# Altium footprint library HTOL Project.PcbLib: 5 footprints
Each footprint in its own frame and in the unit in brackets; x right, y up, seen from the top. Pads: shape width x height; smd on the part's side, far side on the other; paste and mask are expansions set on the pad; w line width, h text height; cw(c..) or ccw(c..) is an arc to the next point about the centre after c.
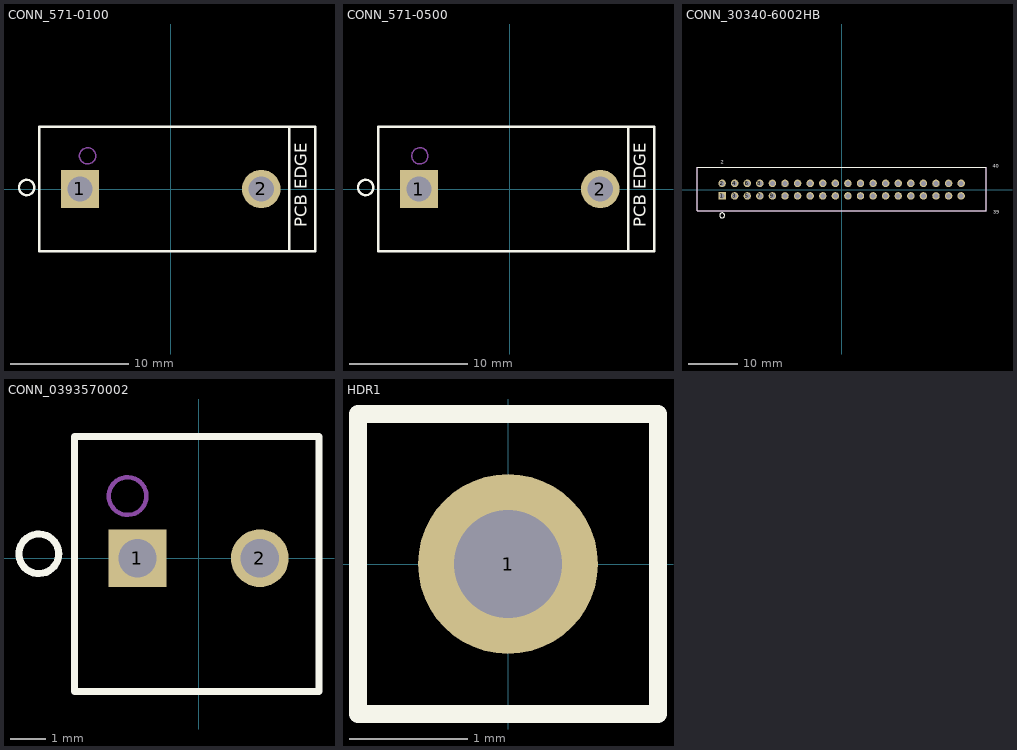
[diagram p0: the footprints below, top view; thin cyan lines are the x and y axes]

## CONN_571-0100 [mm] "Test Sockets SINGLE PCB SOCK BLK"
height 12.4
pads (2):
  rect 3.24x3.24 hole 2.14: 1(-7.65,0)
  round 3.24 hole 2.14: 2(7.65,0)
Top Overlay:
  circle w0.203: c-12.15,0.127 r0.648
  lines w0.203: 10,-5.25 10,5.25 ; -11.1,-5.25 -11.1,5.25 12.2,5.25 12.2,-5.25 -11.1,-5.25
  text "PCB EDGE" at 11.506,-3.218 h1.02
Mechanical 1:
  text "'.Designator'" at 0,0 h1.52
Mechanical 15:
  circle w0.127: c-7.011,2.794 r0.684
  lines w0.127: -10.533,-5.216 -10.516,-5.232 ; 10,-5.25 10,5.25 ; -11.1,-5.25 12.2,-5.25 12.2,5.25 -11.1,5.25 -11.1,-5.25
  text "PCB EDGE" at 11.55,-3.3 h1.02
3D body "deltron-571-0100-4mm-90deg-single-socket-data.step": height 12.4, standoff -5.5, extent -11.1,-4.9 12.27,5.45

## CONN_571-0500 [mm] "Test Sockets SINGLE PCB SOCK RED"
height 12.4
pads (2):
  rect 3.24x3.24 hole 2.14: 1(-7.65,0)
  round 3.24 hole 2.14: 2(7.65,0)
Top Overlay:
  circle w0.203: c-12.15,0.127 r0.648
  lines w0.203: 10,-5.25 10,5.25 ; -11.1,-5.25 12.2,-5.25 12.2,5.25 -11.1,5.25 -11.1,-5.25
  text "PCB EDGE" at 11.506,-3.218 h1.02
Mechanical 1:
  text "'.Designator'" at 0,0 h1.52
Mechanical 15:
  circle w0.127: c-7.578,2.794 r0.684
  lines w0.127: -10.533,-5.216 -10.516,-5.232 ; 10,-5.25 10,5.25 ; -11.1,-5.25 -11.1,5.25 12.2,5.25 12.2,-5.25 -11.1,-5.25
  text "PCB EDGE" at 11.506,-3.218 h1.02
3D body "deltron-571-0500-4mm-90deg-single-socket-data.STEP": height 12.4, standoff -5.5, extent -11.1,-4.9 12.27,5.45

## CONN_30340-6002HB [mm] "CONN HEADER VERT 40POS 2.54MM"
height 9.3
pads (40):
  rect 1.51x1.51 hole 1.01: 1(-24.13,-1.27)
  round 1.51 hole 1.01: 2(-24.13,1.27) 3(-21.59,-1.27) 4(-21.59,1.27) 5(-19.05,-1.27) 6(-19.05,1.27) 7(-16.51,-1.27) 8(-16.51,1.27) 9(-13.97,-1.27) 10(-13.97,1.27) 11(-11.43,-1.27) 12(-11.43,1.27) 13(-8.89,-1.27) 14(-8.89,1.27) 15(-6.35,-1.27) 16(-6.35,1.27) 17(-3.81,-1.27) 18(-3.81,1.27) 19(-1.27,-1.27) 20(-1.27,1.27) 21(1.27,-1.27) 22(1.27,1.27) 23(3.81,-1.27) 24(3.81,1.27) 25(6.35,-1.27) 26(6.35,1.27) 27(8.89,-1.27) 28(8.89,1.27) 29(11.43,-1.27) 30(11.43,1.27) 31(13.97,-1.27) 32(13.97,1.27) 33(16.51,-1.27) 34(16.51,1.27) 35(19.05,-1.27) 36(19.05,1.27) 37(21.59,-1.27) 38(21.59,1.27) 39(24.13,-1.27) 40(24.13,1.27)
Top Overlay:
  circle w0.203: c-24.13,-5.207 r0.508
  lines w0.203: -29.2,-4.251 29.2,-4.251 29.2,4.563 -29.2,4.563 -29.2,-4.251
  text "2" at -24.384,5.207 h0.76
  text "40" at 30.48,4.445 h0.76
  text "39" at 30.607,-4.826 h0.76
Mechanical 1:
  text "'.Designator'" at 0,0 h1.52
Mechanical 15:
  circle w0.127: c-24.13,-1.27 r0.508
  lines w0.127: -29.2,-4.251 -29.2,4.563 29.2,4.563 29.2,-4.251 -29.2,-4.251
3D body "30340-6002.stp": height 8.89, standoff -3.17, extent -29.2,-4.251 29.195,4.563

## CONN_0393570002 [mm] "TERM BLK 2POS SIDE ENT 3.5MM PCB"
height 8.51
pads (2):
  rect 1.65x1.65 hole 1.1: 1(-1.75,0)
  round 1.65 hole 1.1: 2(1.75,0)
Top Overlay:
  circle w0.203: c-4.572,0.127 r0.568
  lines w0.203: -3.556,-3.81 3.444,-3.81 3.444,3.48 -3.556,3.48 -3.556,-3.81
Mechanical 1:
  text "'.Designator'" at 0,0 h1.52
Mechanical 15:
  circle w0.127: c-2.032,1.778 r0.539
  lines w0.127: -3.556,-3.81 -3.556,3.48 3.444,3.48 3.444,-3.81 -3.556,-3.81
3D body "393570002.stp": height 8.51, standoff -3.51, extent -3.556,-3.81 3.556,3.48

## HDR1 [mil] "HDR1"
pads (1):
  round 60 hole 36: 1(0,0)
Top Overlay:
  lines w6: -50,-50 -50,50 50,50 50,-50 -50,-50
3D body "Download_STP_61300111121 (rev1).stp": height 336.72, standoff -117.61, extent -50,-49.99 50,50.01